# Altium footprint library QFN.PcbLib: 5 footprints
Each footprint in its own frame and in the unit in brackets; x right, y up, seen from the top. Pads: shape width x height; smd on the part's side, far side on the other; paste and mask are expansions set on the pad; w line width, h text height; cw(c..) or ccw(c..) is an arc to the next point about the centre after c.
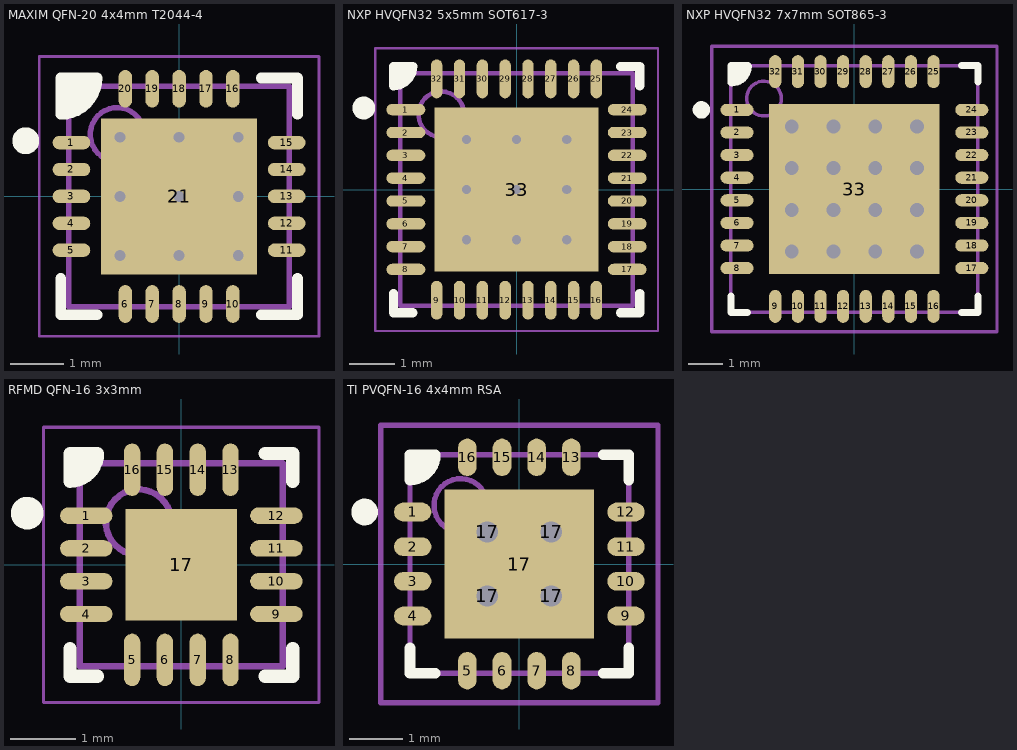
[diagram p0: the footprints below, top view; thin cyan lines are the x and y axes]

## MAXIM QFN-20 4x4mm T2044-4 [mm] "TQFN, 20-Leads, Body 4.00x4.00mm, Pitch 0.50mm, Thermal Pad 2.90x2.90mm, IPC Medium Density"
height 0.8
pads (21):
  oval 0.7x0.25 smd: 1(-2,1) 2(-2,0.5) 3(-2,0) 4(-2,-0.5) 5(-2,-1) 11(2,-1) 12(2,-0.5) 13(2,0) 14(2,0.5) 15(2,1)
  oval 0.25x0.7 smd: 6(-1,-2) 7(-0.5,-2) 8(0,-2) 9(0.5,-2) 10(1,-2) 16(1,2) 17(0.5,2) 18(0,2) 19(-0.5,2) 20(-1,2)
  rect 2.9x2.9 smd: 21(0,0)
via 1.1,-1.1 diameter 0.5 hole 0.2
via 0,-1.1 diameter 0.5 hole 0.2
via -1.1,-1.1 diameter 0.5 hole 0.2
via 1.1,0 diameter 0.5 hole 0.2
via 0,0 diameter 0.5 hole 0.2
via -1.1,0 diameter 0.5 hole 0.2
via 1.1,1.1 diameter 0.5 hole 0.2
via 0,1.1 diameter 0.5 hole 0.2
via -1.1,1.1 diameter 0.5 hole 0.2
Top Overlay:
  circle w0.25: c-2.85,1.034 r0.125
  region: -2.159,2.2 -1.525,2.2 -1.525,1.904 -1.904,1.525 -2.2,1.525
  lines w0.2: -2.2,-1.525 -2.2,-2.2 -1.525,-2.2 ; 1.525,-2.2 2.2,-2.2 2.2,-1.525 ; 1.525,2.2 2.2,2.2 2.2,1.525 ; -2.2,1.525 ccw(c-2.2,2.2) -1.525,2.2 -2.2,2.2 -2.2,1.525
Mechanical 13:
  circle w0.1: c-1.15,1.15 r0.5
  lines w0.1: -2.05,-2.05 2.05,-2.05 2.05,2.05 -2.05,2.05 -2.05,-2.05
Mechanical 15:
  lines w0.05: -2.6,-2.6 2.6,-2.6 2.6,2.6 -2.6,2.6 -2.6,-2.6
  lines w0.1: -0.5,0 0.5,0 ; 0,-0.5 0,0.5
3D body: height 0.8, standoff 0.01, extent -2.05,-2.05 2.05,2.05

## NXP HVQFN32 5x5mm SOT617-3 [mm] "HVQFN, 32-Leads, Body 5.00x5.00mm, Pitch 0.50mm, Thermal Pad 3.60x3.60mm, IPC Medium Density"
height 0.85
pads (33):
  oval 0.85x0.25 smd: 1(-2.425,1.75) 2(-2.425,1.25) 3(-2.425,0.75) 4(-2.425,0.25) 5(-2.425,-0.25) 6(-2.425,-0.75) 7(-2.425,-1.25) 8(-2.425,-1.75) 17(2.425,-1.75) 18(2.425,-1.25) 19(2.425,-0.75) 20(2.425,-0.25) 21(2.425,0.25) 22(2.425,0.75) 23(2.425,1.25) 24(2.425,1.75)
  oval 0.25x0.85 smd: 9(-1.75,-2.425) 10(-1.25,-2.425) 11(-0.75,-2.425) 12(-0.25,-2.425) 13(0.25,-2.425) 14(0.75,-2.425) 15(1.25,-2.425) 16(1.75,-2.425) 25(1.75,2.425) 26(1.25,2.425) 27(0.75,2.425) 28(0.25,2.425) 29(-0.25,2.425) 30(-0.75,2.425) 31(-1.25,2.425) 32(-1.75,2.425)
  rect 3.6x3.6 smd: 33(0,0)
via 1.1,-1.1 diameter 0.5 hole 0.2
via 0,-1.1 diameter 0.5 hole 0.2
via -1.1,-1.1 diameter 0.5 hole 0.2
via 1.1,0 diameter 0.5 hole 0.2
via 0,0 diameter 0.5 hole 0.2
via -1.1,0 diameter 0.5 hole 0.2
via 1.1,1.1 diameter 0.5 hole 0.2
via 0,1.1 diameter 0.5 hole 0.2
via -1.1,1.1 diameter 0.5 hole 0.2
Top Overlay:
  circle w0.25: c-3.35,1.788 r0.125
  region: -2.7,2.7 -2.275,2.7 -2.275,2.551 -2.551,2.275 -2.7,2.275
  lines w0.2: -2.7,-2.275 -2.7,-2.7 -2.275,-2.7 ; 2.275,-2.7 2.7,-2.7 2.7,-2.275 ; 2.275,2.7 2.7,2.7 2.7,2.275 ; -2.7,2.275 ccw(c-2.7,2.7) -2.275,2.7 -2.7,2.7 -2.7,2.275
Mechanical 13:
  circle w0.1: c-1.65,1.65 r0.5
  lines w0.1: -2.55,-2.55 2.55,-2.55 2.55,2.55 -2.55,2.55 -2.55,-2.55
Mechanical 15:
  lines w0.05: -3.1,-3.1 3.1,-3.1 3.1,3.1 -3.1,3.1 -3.1,-3.1
  lines w0.1: -0.5,0 0.5,0 ; 0,-0.5 0,0.5
3D body: height 0.85, standoff 0, extent -2.55,-2.55 2.55,2.55

## NXP HVQFN32 7x7mm SOT865-3 [mm] "QFN, 32-Leads, Body 7.1x7.1mm (max), Pitch 0.65mm, IPC Medium Density"
height 1
pads (33):
  oval 0.95x0.35 smd: 1(-3.375,2.275) 2(-3.375,1.625) 3(-3.375,0.975) 4(-3.375,0.325) 5(-3.375,-0.325) 6(-3.375,-0.975) 7(-3.375,-1.625) 8(-3.375,-2.275) 17(3.375,-2.275) 18(3.375,-1.625) 19(3.375,-0.975) 20(3.375,-0.325) 21(3.375,0.325) 22(3.375,0.975) 23(3.375,1.625) 24(3.375,2.275)
  oval 0.35x0.95 smd: 9(-2.275,-3.375) 10(-1.625,-3.375) 11(-0.975,-3.375) 12(-0.325,-3.375) 13(0.325,-3.375) 14(0.975,-3.375) 15(1.625,-3.375) 16(2.275,-3.375) 25(2.275,3.375) 26(1.625,3.375) 27(0.975,3.375) 28(0.325,3.375) 29(-0.325,3.375) 30(-0.975,3.375) 31(-1.625,3.375) 32(-2.275,3.375)
  rect 4.9x4.9 smd: 33(0,0)
via 1.8,-1.8 diameter 0.8 hole 0.4
via 0.6,-1.8 diameter 0.8 hole 0.4
via -0.6,-1.8 diameter 0.8 hole 0.4
via -1.8,-1.8 diameter 0.8 hole 0.4
via 1.8,-0.6 diameter 0.8 hole 0.4
via 0.6,-0.6 diameter 0.8 hole 0.4
via -0.6,-0.6 diameter 0.8 hole 0.4
via -1.8,-0.6 diameter 0.8 hole 0.4
via 1.8,0.6 diameter 0.8 hole 0.4
via 0.6,0.6 diameter 0.8 hole 0.4
via -0.6,0.6 diameter 0.8 hole 0.4
via -1.8,0.6 diameter 0.8 hole 0.4
via 1.8,1.8 diameter 0.8 hole 0.4
via 0.6,1.8 diameter 0.8 hole 0.4
via -0.6,1.8 diameter 0.8 hole 0.4
via -1.8,1.8 diameter 0.8 hole 0.4
Top Overlay:
  circle w0.25: c-4.4,2.275 r0.125
  rectangle: -3.302,3.175 -3.175,3.302
  rectangle: -3.302,3.302 -3.048,3.55
  rectangle: -3.55,3.048 -3.302,3.55
  lines w0.2: -3.55,-3.075 -3.55,-3.55 -3.075,-3.55 ; 3.075,-3.55 3.55,-3.55 3.55,-3.075 ; 3.075,3.55 3.55,3.55 3.55,3.075 ; -3.55,3.075 ccw(c-3.525,3.075) -3.525,3.05 ccw(c-3.525,3.525) -3.05,3.525 ccw(c-3.075,3.525) -3.075,3.55 -3.55,3.55 -3.55,3.075
Mechanical 13:
  circle w0.1: c-2.6,2.6 r0.5
  lines w0.1: -3.55,-3.55 3.55,-3.55 3.55,3.55 -3.55,3.55 -3.55,-3.55
Mechanical 15:
  lines w0.1: -0.5,0 0.5,0 ; 0,-0.5 0,0.5 ; -4.1,-4.1 4.1,-4.1 4.1,4.1 -4.1,4.1 -4.1,-4.1
3D body: height 1, standoff 0, extent -3.55,-3.55 3.55,3.55

## RFMD QFN-16 3x3mm [mm] "QFN, 16-Leads, Body 3.00x3.00mm, Pitch 0.50mm, Thermal Pad 1.70x1.70mm, IPC Medium Density"
height 0.9
pads (17):
  oval 0.8x0.25 smd: 1(-1.45,0.75) 2(-1.45,0.25) 3(-1.45,-0.25) 4(-1.45,-0.75) 9(1.45,-0.75) 10(1.45,-0.25) 11(1.45,0.25) 12(1.45,0.75)
  oval 0.25x0.8 smd: 5(-0.75,-1.45) 6(-0.25,-1.45) 7(0.25,-1.45) 8(0.75,-1.45) 13(0.75,1.45) 14(0.25,1.45) 15(-0.25,1.45) 16(-0.75,1.45)
  rect 1.7x1.7 smd: 17(0,0)
Top Overlay:
  circle w0.25: c-2.35,0.788 r0.125
  region: -1.7,1.7 -1.275,1.7 -1.275,1.519 -1.519,1.275 -1.7,1.275
  lines w0.2: -1.7,-1.275 -1.7,-1.7 -1.275,-1.7 ; 1.275,-1.7 1.7,-1.7 1.7,-1.275 ; 1.275,1.7 1.7,1.7 1.7,1.275 ; -1.7,1.275 ccw(c-1.7,1.7) -1.275,1.7 -1.7,1.7 -1.7,1.275
Mechanical 13:
  circle w0.1: c-0.65,0.65 r0.5
  lines w0.1: -1.55,-1.55 1.55,-1.55 1.55,1.55 -1.55,1.55 -1.55,-1.55
Mechanical 15:
  lines w0.05: -2.1,-2.1 2.1,-2.1 2.1,2.1 -2.1,2.1 -2.1,-2.1
  lines w0.1: -0.5,0 0.5,0 ; 0,-0.5 0,0.5
3D body: height 0.9, standoff 0.01, extent -1.55,-1.55 1.55,1.55

## TI PVQFN-16 4x4mm RSA [mm] "QFN, 16-Leads, Body 4.1x4.1mm (max), Pitch 0.65mm, IPC Medium Density"
height 1
pads (21):
  oval 0.7x0.35 smd: 1(-2,0.975) 2(-2,0.325) 3(-2,-0.325) 4(-2,-0.975) 9(2,-0.975) 10(2,-0.325) 11(2,0.325) 12(2,0.975)
  oval 0.35x0.7 smd: 5(-0.975,-2) 6(-0.325,-2) 7(0.325,-2) 8(0.975,-2) 13(0.975,2) 14(0.325,2) 15(-0.325,2) 16(-0.975,2)
  round 0.8 hole 0.4 unplated: 17(-0.6,-0.6) 17(-0.6,0.6) 17(0.6,-0.6) 17(0.6,0.6)
  rect 2.8x2.8 smd: 17(0,0)
Top Overlay:
  circle w0.25: c-2.9,0.975 r0.125
  region: -2.05,2.05 -1.575,2.05 -1.575,1.854 -1.854,1.575 -2.05,1.575
  lines w0.2: -2.05,-1.575 -2.05,-2.05 -1.575,-2.05 ; 1.575,-2.05 2.05,-2.05 2.05,-1.575 ; 1.575,2.05 2.05,2.05 2.05,1.575 ; -2.05,1.575 ccw(c-2.05,2.05) -1.575,2.05 -2.05,2.05 -2.05,1.575
Mechanical 13:
  circle w0.1: c-1.1,1.1 r0.5
  lines w0.1: -2.05,-2.05 2.05,-2.05 2.05,2.05 -2.05,2.05 -2.05,-2.05
Mechanical 15:
  lines w0.1: -0.5,0 0.5,0 ; 0,-0.5 0,0.5 ; -2.6,-2.6 2.6,-2.6 2.6,2.6 -2.6,2.6 -2.6,-2.6
3D body: height 1, standoff 0.08, extent -2.05,-2.05 2.05,2.05